# Altium integrated library My_LIB.IntLib: 30 symbols
Pins are listed as number, name and electrical type; pins without a type are passive.

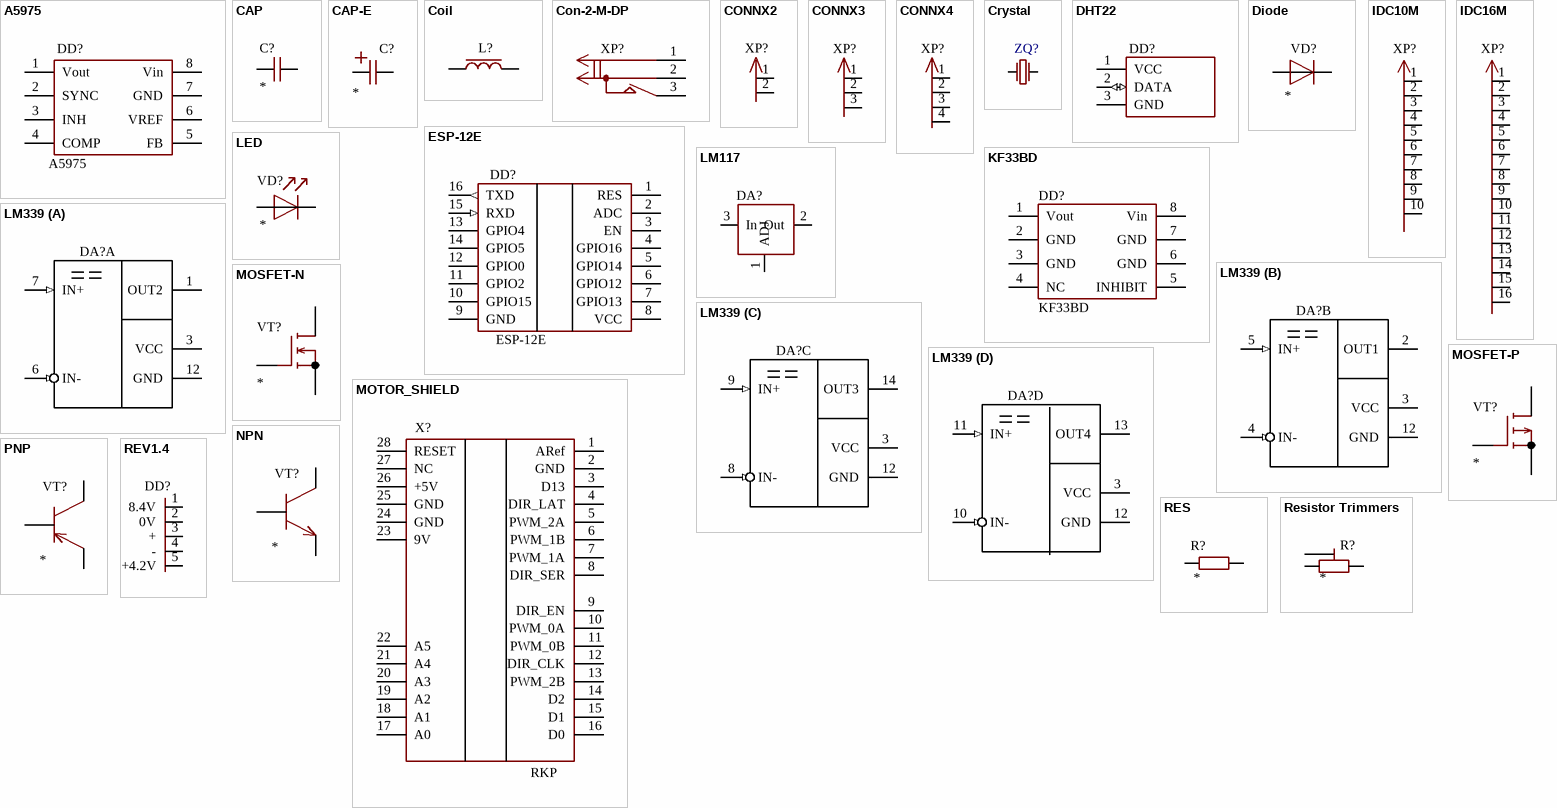
[diagram p0: symbols A5975 to REV1.4]

## A5975
designator DD?
STEP-DOWN; HelpURL: *; Value: A5975
footprint SOIC8 (SOIC, 8-Leads, Body 4,90x3,90mm, Pitch 1,27mm, IPC Medium Density)
pins: 1 Vout (power), 2 SYNC (power), 3 INH (power), 4 COMP, 5 FB, 6 VREF (power), 7 GND (power), 8 Vin (power)

## CAP
designator C?
Value: *
footprint C1210 (3225M)
footprint C1206 (3216M)
footprint C0805 (2012M)
footprint K10-17-5
pins: 1, 2

## CAP-E
designator C?
Value: *
footprint ECAP_10_5
pins: 1, 2

## Coil
designator L?  (value not drawn)
Value: *
footprint CDRH127
pins: 1, 2

## Con-2-M-DP
designator XP?  (value not drawn)
Value: *
footprint DJK-02-Series
pins: 1, 2, 3

## CONNX2
designator XP?, comment JAMPER  (value not drawn)
Value: JAMPER
footprint PLS-2
pins: 1, 2

## CONNX3
designator XP?, comment JAMPER  (value not drawn)
Value: JAMPER
footprint PLS-3
pins: 1, 2, 3

## CONNX4
designator XP?, comment JAMPER  (value not drawn)
Value: JAMPER
footprint PLS-4
pins: 1, 2, 3, 4

## Crystal
designator ZQ?  (value not drawn)
Value: *
footprint HC-49S (HC49 Short Through-hole Mount Footprint)
pins: 1, 3

## DHT22
designator DD?  (value not drawn)
Humidity and temp module; Type: *; Value: *
footprint DHT22
pins: 1 VCC, 2 DATA (io), 3 GND

## Diode
designator VD?
Value: *
footprint DO-214AC ((SMA) Low profile package)
pins: 1 А "Анод", 2 К "Катод"

## ESP-12E
designator DD?
Wi-Fi module; HelpURL: *; Value: ESP-12E
footprint ESP12E
pins: 1 RES, 2 ADC, 3 EN, 4 GPIO16, 5 GPIO14, 6 GPIO12, 7 GPIO13, 8 VCC (power), 9 GND (power), 10 GPIO15, 11 GPIO2, 12 GPIO0, 13 GPIO4, 14 GPIO5, 15 RXD (in), 16 TXD (out)

## IDC10M
designator XP?  (value not drawn)
Value: *
footprint IDC10M
pins: 1, 2, 3, 4, 5, 6, 7, 8, 9, 10

## IDC16M
designator XP?  (value not drawn)
Value: *
footprint IDC16M
pins: 1, 2, 3, 4, 5, 6, 7, 8, 9, 10, 11, 12, 13, 14, 15, 16

## KF33BD
designator DD?
DC-DC; HelpURL: *; Type: SOIC8; Value: KF33BD
footprint SOIC8 (SOIC, 8-Leads, Body 4,90x3,90mm, Pitch 1,27mm, IPC Medium Density)
pins: 1 Vout (power), 2 GND (power), 3 GND (power), 4 NC, 5 INHIBIT, 6 GND (power), 7 GND (power), 8 Vin (power)

## LED
designator VD?
Value: *
footprint LED-5mm
pins: 1 А "Анод", 2 К "Катод"

## LM117
designator DA?  (value not drawn)
Value: *
footprint SOT-223
pins: 1 ADJ "Общий", 2 Out "Выход", 3 In "Вход"

## LM339
designator DA?  (value not drawn)
Value: *
footprint DIP14
footprint SOP14
pins on every part: 3 VCC (power) "Вывод питания от источника положительного напряжения", 12 GND (power) "Вывод питания от источника отрицательного напряжения"
part A pins: 1 OUT2 (oc) "Выход", 6 IN- (in) "Вход инверсный", 7 IN+ (in) "Вход неинверсный"
part B pins: 2 OUT1 (oc) "Выход", 4 IN- (in) "Вход инверсный", 5 IN+ (in) "Вход неинверсный"
part C pins: 8 IN- (in) "Вход инверсный", 9 IN+ (in) "Вход неинверсный", 14 OUT3 (oc) "Выход"
part D pins: 10 IN- (in) "Вход инверсный", 11 IN+ (in) "Вход неинверсный", 13 OUT4 (oc) "Выход"

## MOSFET-N
designator VT?
Value: *
footprint TO-220+FK
footprint TO-220
pins: 1 G "Затвор", 2 D "Сток", 3 S "Исток"

## MOSFET-P
designator VT?
Value: *
footprint TO-220
footprint TO-220+FK
pins: 1 G "Затвор", 2 D "Сток", 3 S "Исток"

## MOTOR_SHIELD
designator X?, comment RKP
Wi-Fi module; HelpURL: *; Type: arduino; Value: RKP
footprint ARDUINO SHIELD
pins: 1 ARef, 2 GND, 3 D13, 4 DIR_LAT, 5 PWM_2A, 6 PWM_1B, 7 PWM_1A, 8 DIR_SER (power), 9 DIR_EN, 10 PWM_0A, 11 PWM_0B, 12 DIR_CLK, 13 PWM_2B, 14 D2, 15 D1, 16 D0, 17 A0, 18 A1, 19 A2, 20 A3, 21 A4, 22 A5, 23 9V, 24 GND, 25 GND, 26 +5V, 27 NC, 28 RESET

## NPN
designator VT?
Value: *
footprint SOT-23
pins: 1 Б "База", 2 К "Коллектор", 3 Э "Эмиттер"

## PNP
designator VT?
Value: *
footprint SOT-23
pins: 1 Б "База", 2 К "Коллектор", 3 Э "Эмиттер"

## RES
designator R?
Value: *
footprint R1206 (3216M)
footprint R0805 (2012M)
footprint R2512 (6432M)
pins: 1, 2

## Resistor Trimmers
designator R?
Value: *
footprint T93YA
pins: 1, 2, 3

## REV1.4
designator DD?  (value not drawn)
Value: *
footprint 20A8.4ВREV1.2
pins: 1 8.4V, 2 0V, 3 +, 4 -, 5 +4.2V

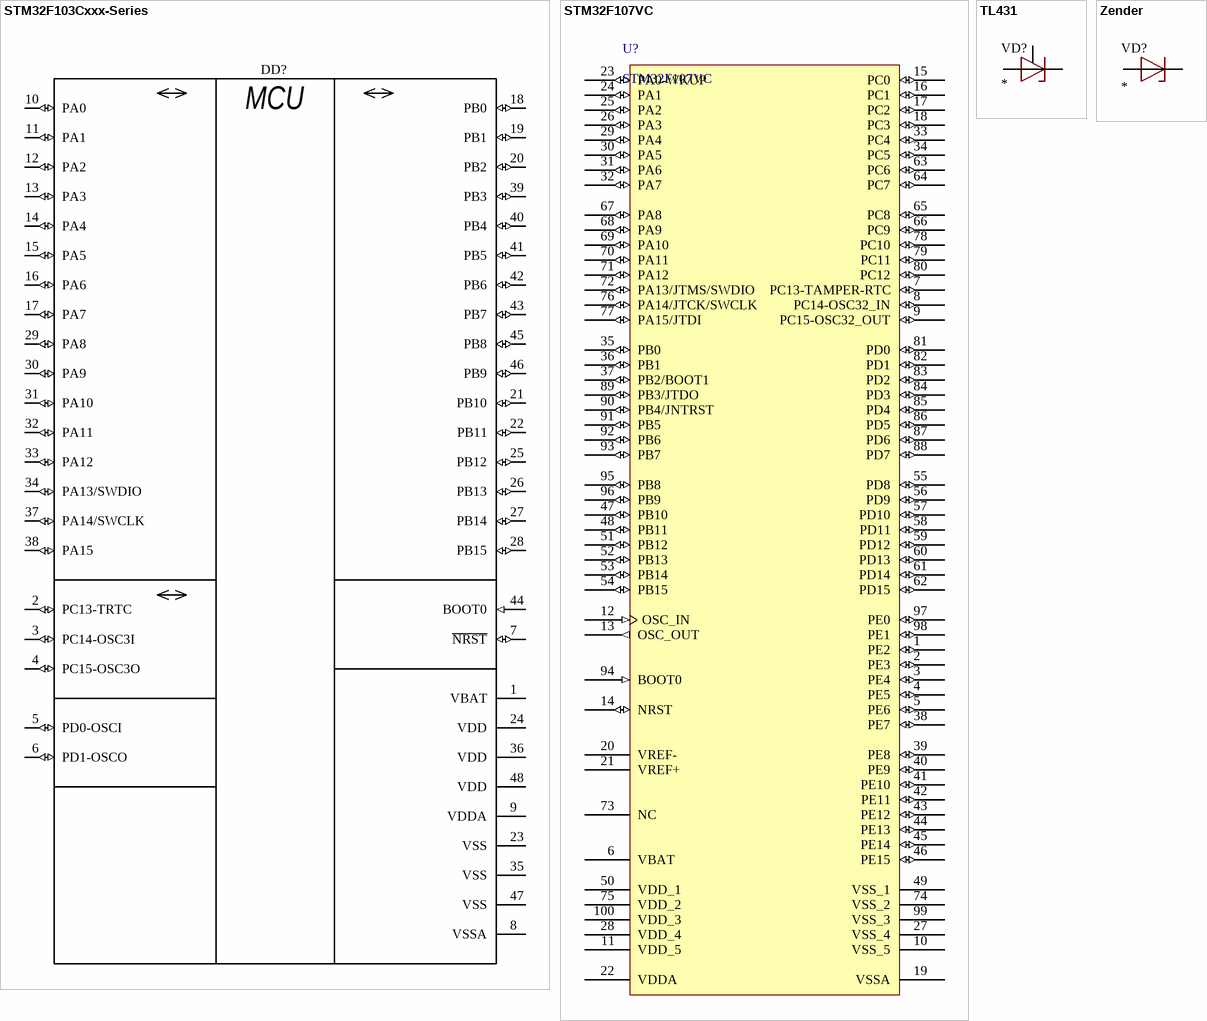
[diagram p1: symbols STM32F103Cxxx-Series to Zender]

## STM32F103Cxxx-Series
designator DD?  (value not drawn)
Value: *
footprint LQFP-48 (Thin QFP, 48-Leads, Body 7x7mm, Pitch 0.5mm, IPC Medium Density)
pins: 1 VBAT (power), 2 PC13-TRTC (io) "PC13-TAMPER-RTC/PC13/TAMPER-RTC", 3 PC14-OSC3I (io) "PC14-OSC32_IN/PC14/OSC32_IN", 4 PC15-OSC3O (io) "PC15-OSC32_OUT/PC15/OSC32_OUT", 5 PD0-OSCI (io) "PD0/OSC_IN", 6 PD1-OSCO (io) "PD1/OSC_OUT", 7 ~{NRST} (io) "NRST", 8 VSSA (power), 9 VDDA (power), 10 PA0 (io) "PA0-WKUP/PA0/WKUP/USART2_CTS/ADC12_IN0/TIM2_CH1_ETR", 11 PA1 (io) "PA1/USART2_RTS/ADC12_IN1/TIM2_CH2", 12 PA2 (io) "PA2/USART2_TX/ADC12_IN2/TIM2_CH3", 13 PA3 (io) "PA3/USART2_RX/ADC12_IN3/TIM2_CH4", 14 PA4 (io) "PA4/SPI1_NSS/USART2_CK/ADC12_IN4", 15 PA5 (io) "PA5/SPI1_SCK/ADC12_IN5", 16 PA6 (io) "PA6/SPI1_MISO/ADC12_IN6/TIM3_CH1/TIM1_BKIN", 17 PA7 (io) "PA7/SPI1_MOSI/ADC12_IN7/TIM3_CH2/TIM1_CH1N", 18 PB0 (io) "PB0/ADC12_IN8/TIM3_CH3/TIM1_CH2N", 19 PB1 (io) "PB1/ADC12_IN9/TIM3_CH4/TIM1_CH3N", 20 PB2 (io) "PB2/BOOT1", 21 PB10 (io) "PB10/I2C2_SCL/USART3_TX/TIM2_CH3", 22 PB11 (io) "PB11/I2C2_SDA/USART3_RX/TIM2_CH4", 23 VSS (power) "VSS_1", 24 VDD (power) "VDD_1", 25 PB12 (io) "PB12/SPI2_NSS/I2C2_SMBAl/USART3_CK/TIM1_BKIN", 26 PB13 (io) "PB13/SPI2_SCK/USART3_CTS/TIM1_CH1N", 27 PB14 (io) "PB14/SPI2_MISO/USART3_RTS/TIM1_CH2N", 28 PB15 (io) "PB15/SPI2_MOSI/TIM1_CH3N", 29 PA8 (io) "PA8/USART1_CK/TIM1_CH1/MCO", 30 PA9 (io) "PA9/USART1_TX/TIM1_CH2", 31 PA10 (io) "PA10/USART1_RX/TIM1_CH3", 32 PA11 (io) "PA11/USART1_CTS/CANRX/USBDM/TIM1_CH4", 33 PA12 (io) "PA12/USART1_RTS/CANTX/USBDP/TIM1_ETR", 34 PA13/SWDIO (io) "PA13/JTMS/SWDIO", 35 VSS (power) "VSS_2", 36 VDD (power) "VDD_2", 37 PA14/SWCLK (io) "PA14/JTCK/SWCLK", 38 PA15 (io) "PA15/JTDI/TIM2_CH1_ETR/SPI1_NSS", 39 PB3 (io) "PB3/JTDO/TIM2_CH2/TRACESWO/SPI1_SCK", 40 PB4 (io) "PB4/NJTRST/TIM3_CH1/SPI1_MISO", 41 PB5 (io) "PB5/I2C1_SMBAI/TIM3_CH2/SPI1_MOSI", 42 PB6 (io) "PB6/I2C1_SCL/TIM4_CH1/USART1_TX", 43 PB7 (io) "PB7/I2C1_SDA/TIM4_CH2/USART1_RX", 44 BOOT0 (in), 45 PB8 (io) "PB8/TIM4_CH3/I2C1_SCL/CANRX", 46 PB9 (io) "PB9/TIM4_CH4/I2C1_SDA/CANTX", 47 VSS (power) "VSS_3", 48 VDD (power) "VDD_3"
text: MCU

## STM32F107VC
designator U?
STM32 ARM-based 32-bit 256KB Flash; Value: *
footprint LQFP100_N (Thin QFP, 100-Leads, Body 14x14mm, Pitch 0.5mm, IPC Medium Density)
footprint LQFP100_L (Thin QFP, 100-Leads, Body 14x14mm, Pitch 0.5mm, IPC High Density)
footprint LQFP100_M (Thin QFP, 100-Leads, Body 14x14mm, Pitch 0.5mm, IPC Low Density)
pins: 1 PE2 (io), 2 PE3 (io), 3 PE4 (io), 4 PE5 (io), 5 PE6 (io), 6 VBAT (power), 7 PC13-TAMPER-RTC (io), 8 PC14-OSC32_IN (io), 9 PC15-OSC32_OUT (io), 10 VSS_5 (power), 11 VDD_5 (power), 12 OSC_IN (in), 13 OSC_OUT (out), 14 NRST (io), 15 PC0 (io), 16 PC1 (io), 17 PC2 (io), 18 PC3 (io), 19 VSSA (power), 20 VREF- (power), 21 VREF+ (power), 22 VDDA (power), 23 PA0-WKUP (io), 24 PA1 (io), 25 PA2 (io), 26 PA3 (io), 27 VSS_4 (power), 28 VDD_4 (power), 29 PA4 (io), 30 PA5 (io), 31 PA6 (io), 32 PA7 (io), 33 PC4 (io), 34 PC5 (io), 35 PB0 (io), 36 PB1 (io), 37 PB2/BOOT1 (io), 38 PE7 (io), 39 PE8 (io), 40 PE9 (io), 41 PE10 (io), 42 PE11 (io), 43 PE12 (io), 44 PE13 (io), 45 PE14 (io), 46 PE15 (io), 47 PB10 (io), 48 PB11 (io), 49 VSS_1 (power), 50 VDD_1 (power), 51 PB12 (io), 52 PB13 (io), 53 PB14 (io), 54 PB15 (io), 55 PD8 (io), 56 PD9 (io), 57 PD10 (io), 58 PD11 (io), 59 PD12 (io), 60 PD13 (io), 61 PD14 (io), 62 PD15 (io), 63 PC6 (io), 64 PC7 (io), 65 PC8 (io), 66 PC9 (io), 67 PA8 (io), 68 PA9 (io), 69 PA10 (io), 70 PA11 (io), 71 PA12 (io), 72 PA13/JTMS/SWDIO (io), 73 NC, 74 VSS_2 (power), 75 VDD_2 (power), 76 PA14/JTCK/SWCLK (io), 77 PA15/JTDI (io), 78 PC10 (io), 79 PC11 (io), 80 PC12 (io), 81 PD0 (io), 82 PD1 (io), 83 PD2 (io), 84 PD3 (io), 85 PD4 (io), 86 PD5 (io), 87 PD6 (io), 88 PD7 (io), 89 PB3/JTDO (io), 90 PB4/JNTRST (io), 91 PB5 (io), 92 PB6 (io), 93 PB7 (io), 94 BOOT0 (in), 95 PB8 (io), 96 PB9 (io), 97 PE0 (io), 98 PE1 (io), 99 VSS_3 (power), 100 VDD_3 (power)

## TL431
designator VD?
Value: *
footprint TO-92
pins: 1 К "Катод", 2 А "Анод", 3 R

## Zender
designator VD?
Value: *
footprint DO-35
pins: 1 А "Анод", 2 К "Катод"